# Altium footprint library IC_Texas_Instruments_LM293D_eec_0.PcbLib: 1 footprints
Each footprint in its own frame and in the unit in brackets; x right, y up, seen from the top. Pads: shape width x height; smd on the part's side, far side on the other; paste and mask are expansions set on the pad; w line width, h text height; cw(c..) or ccw(c..) is an arc to the next point about the centre after c.
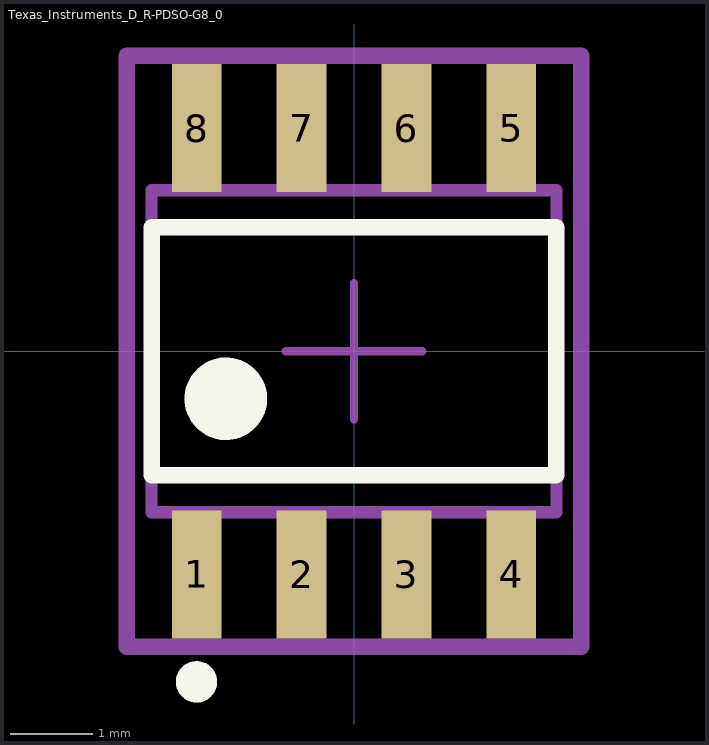
[diagram p0: the footprint, top view; thin cyan lines are the x and y axes]

## Texas_Instruments_D_R-PDSO-G8_0 [mm]
pads (8):
  rect 0.6x1.55 smd paste-1000 mask+0: 1(-1.905,-2.7) 2(-0.635,-2.7) 3(0.635,-2.7) 4(1.905,-2.7) 5(1.905,2.7) 6(0.635,2.7) 7(-0.635,2.7) 8(-1.905,2.7)
Top Overlay:
  circle w0.25: c-1.905,-4 r0.125
  circle w0.5: c-1.55,-0.575 r0.25
  lines w0.2: -2.45,-1.5 2.45,-1.5 2.45,1.5 -2.45,1.5 -2.45,-1.5
Top Paste:
  rectangle: -2.18,1.95 -1.63,3.45
  rectangle: -2.18,-3.45 -1.63,-1.95
  rectangle: 1.63,-3.45 2.18,-1.95
  rectangle: 1.63,1.95 2.18,3.45
  rectangle: 0.36,1.95 0.91,3.45
  rectangle: -0.91,1.95 -0.36,3.45
  rectangle: -0.91,-3.45 -0.36,-1.95
  rectangle: 0.36,-3.45 0.91,-1.95
Mechanical 10:
  lines w0.2: -2.75,-3.575 2.75,-3.575 2.75,3.575 -2.75,3.575 -2.75,-3.575
  text ".Designator" at 0,0 h1
Mechanical 12:
  lines w0.15: -2.45,-1.95 2.45,-1.95 2.45,1.95 -2.45,1.95 -2.45,-1.95
Mechanical 15:
  lines w0.1: -0.825,0 0.825,0 ; 0,-0.825 0,0.825
  lines w0.2: -2.75,-3.575 2.75,-3.575 2.75,3.575 -2.75,3.575 -2.75,-3.575
3D body "IC_Texas_Instruments_LM293D_eec.STEP": height 0.25, standoff 0, extent -2.75,-3.575 2.75,3.575